# EAGLE library part 52559-1879 (library kotuku)
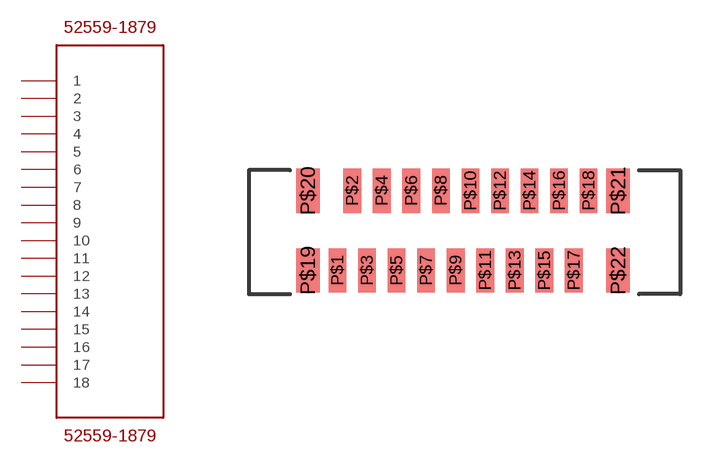
[diagram p11: symbol with the pads of 52559-1879; footprint 52559-1879]

Designator prefix J

## 52559-1879  [52559-1879]
P$1  1
P$2  2
P$3  3
P$4  4
P$5  5
P$6  6
P$7  7
P$8  8
P$9  9
P$10  10
P$11  11
P$12  12
P$13  13
P$14  14
P$15  15
P$16  16
P$17  17
P$18  18

## Footprint 52559-1879 (pad centres in mm)
smd 0.6 x 1.5: P$1 0,0; P$2 0.5,2.7; P$3 1,0; P$4 1.5,2.7; P$5 2,0; P$6 2.5,2.7; P$7 3,0; P$8 3.5,2.7; P$9 4,0; P$10 4.5,2.7; P$11 5,0; P$12 5.5,2.7; P$13 6,0; P$14 6.5,2.7; P$15 7,0; P$16 7.5,2.7; P$17 8,0; P$18 8.5,2.7
smd 0.8 x 1.5: P$19 -1,0; P$20 -1,2.7; P$21 9.5,2.7; P$22 9.5,0